# Altium schematic symbol library Button SMD.SchLib: 1 symbol
Pins are listed as number, name and electrical type; pins without a type are passive.

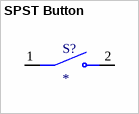
[diagram p0: symbol SPST Button]

## SPST Button
designator S?
3mmX6mm; MP: B3U-1000P; Price: None; Availability: Unavailable; Value: *; Package: None
footprint SPST Button (3mmx6mm)
pins: 1, 2